# Altium schematic symbol library Resistors-Library.SchLib: 10 symbols
Pins are listed as number, name and electrical type; pins without a type are passive.

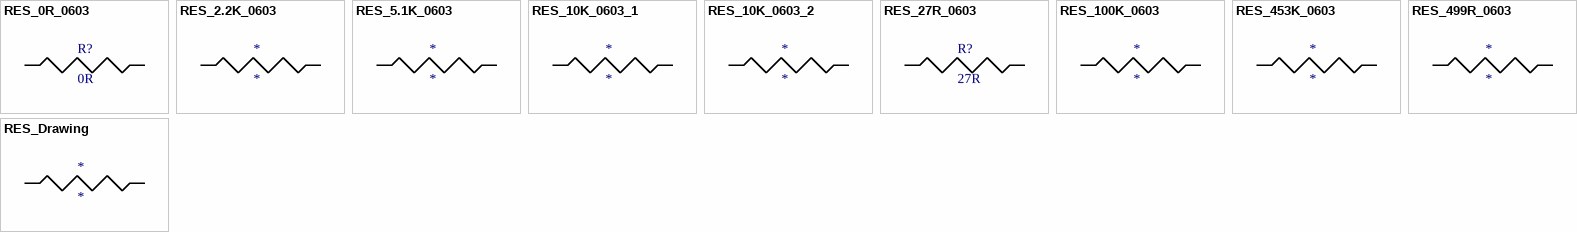
[diagram p0: symbols RES_0R_0603 to RES_Drawing]

## RES_0R_0603
designator R?, comment 0R
Resistor SMD 0603 0R
footprint RES_0R_0603 (Chip Resistor, 2-Leads, Body 1,58x0,85mm, IPC Medium Density)
pins: 1, 2

## RES_2.2K_0603
designator *
Resistor SMD 0603 2.2K
footprint RES_2.2K_0603 (Chip Resistor, 2-Leads, Body 1,58x0,85mm, IPC Medium Density)
pins: 1, 2

## RES_5.1K_0603
designator *
Resistor SMD 0603 5.1K
footprint RES_5.1K_0603 (Chip Resistor, 2-Leads, Body 1,60x0,80mm, IPC Medium Density)
pins: 1, 2

## RES_10K_0603_1
designator *
Resistor SMD 0603 10K
footprint RES_10K_0603_1 (Chip Resistor, 2-Leads, Body 1,55x0,80mm, IPC Medium Density)
pins: 1, 2

## RES_10K_0603_2
designator *
Resistor SMD 0603 10K
footprint RES_10K_0603_2 (Chip Resistor, 2-Leads, Body 1,60x0,80mm, IPC Medium Density)
pins: 1, 2

## RES_27R_0603
designator R?, comment 27R
Resistor SMD 0603 27R
footprint RES_27R_0603 (Chip Resistor, 2-Leads, Body 1,60x0,80mm, IPC Medium Density)
pins: 1, 2

## RES_100K_0603
designator *
Resistor SMD 0603 100K
footprint RES_100K_0603 (Chip Resistor, 2-Leads, Body 1,60x0,80mm, IPC Medium Density)
pins: 1, 2

## RES_453K_0603
designator *
Resistor SMD 0603 453K
footprint RES_453K_0603 (Chip Resistor, 2-Leads, Body 1,55x0,80mm, IPC Medium Density)
pins: 1, 2

## RES_499R_0603
designator *
Resistor SMD 0603 499R
footprint RES_499R_0603 (Chip Resistor, 2-Leads, Body 1,55x0,85mm, IPC Medium Density)
pins: 1, 2

## RES_Drawing
designator *
Resistor SMD 0603 ?R
pins: 1, 2